# EAGLE library part CONNECTER_RJ45_X1 (library template)
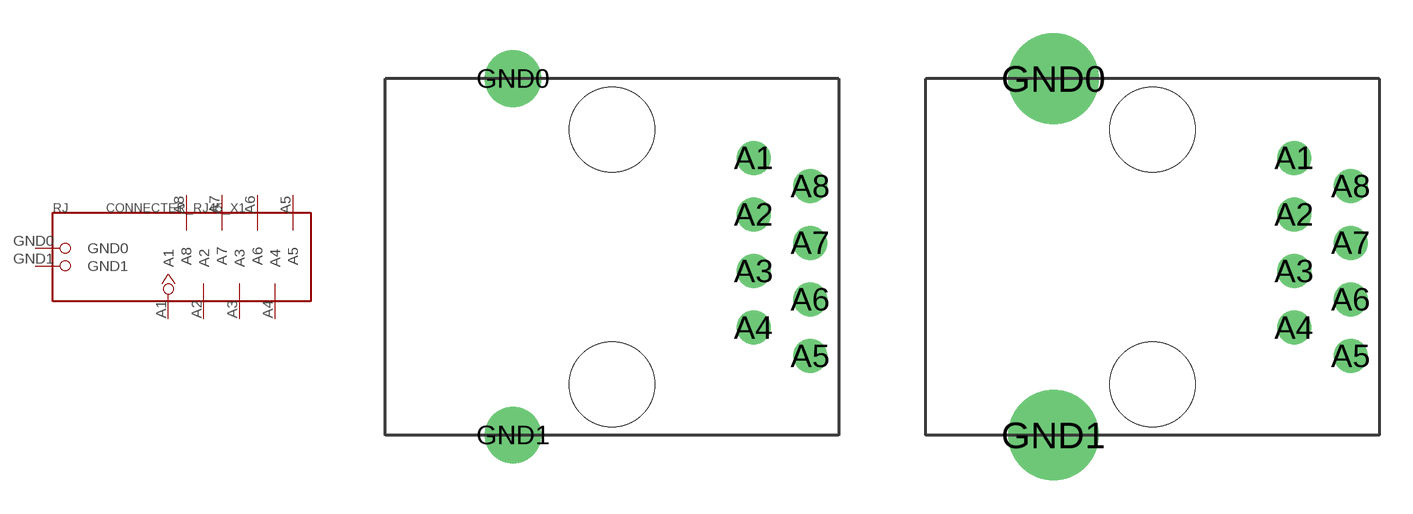
[diagram p29: symbol with the pads of CONNECTER_RJ45_X1; footprints CONNECTER_RJ45_X1, CONNECTER_RJ45_X1_SINGLE]

Designator prefix RJ

## CONNECTER_RJ45_X1_DD  [CONNECTER_RJ45_X1]
A1  A1
A2  A2
A3  A3
A4  A4
A5  A5
A6  A6
A7  A7
A8  A8
GND0  GND0
GND1  GND1

## CONNECTER_RJ45_X1_SS  [CONNECTER_RJ45_X1_SINGLE]
Pads as for CONNECTER_RJ45_X1

## Footprint CONNECTER_RJ45_X1 (pad centres in mm)
drill 0.813 pad 1.524: A1 -2.54,5.08; A2 -2.54,2.54; A3 -2.54,0; A4 -2.54,-2.54; A5 0,-3.81; A6 0,-1.27; A7 0,1.27; A8 0,3.81
drill 1.524 pad 2.54: GND0 -13.335,8.636; GND1 -13.335,-7.366
hole 3.81 at -8.89,-5.08
hole 3.81 at -8.89,6.35

## Footprint CONNECTER_RJ45_X1_SINGLE (pad centres in mm)
drill 0.813 pad 1.524: A1 -2.54,5.08; A2 -2.54,2.54; A3 -2.54,0; A4 -2.54,-2.54; A5 0,-3.81; A6 0,-1.27; A7 0,1.27; A8 0,3.81
drill 1.524 pad 4.064: GND0 -13.335,8.636; GND1 -13.335,-7.366
hole 3.81 at -8.89,-5.08
hole 3.81 at -8.89,6.35